# EAGLE library part OPAMP_DUAL (library marionette)
Op Amps Dual Package MC4558, dual op amp, Vin = +-2V to 20V, GBW = 5.5MHz, Pkg: SOIC-8, Mfg.: ST, Mfg_Part_No.: MC4558CDT; Digikey Part No.: 497-4051-1-ND
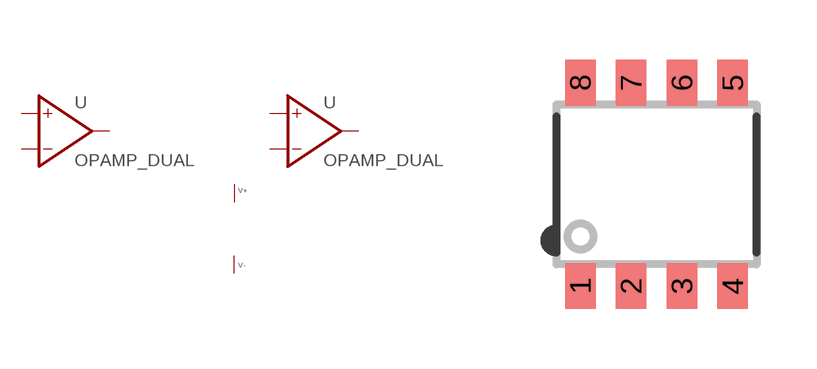
[diagram p14: symbol with the pads of SOIC-8; footprint SOIC-8]

Designator prefix U; gates G1=OP_AMP G2=OP_AMP G3=PIN_V+ G4=PIN_V-

## OPAMP_DUAL_MC4558CDT  [SOIC-8]
1  G1:OUT  out
2  G1:-IN  in
3  G1:+IN  in
4  G4:V-  pwr
5  G2:+IN  in
6  G2:-IN  in
7  G2:OUT  out
8  G3:V+  pwr

## Footprint SOIC-8 (pad centres in mm)
smd 0.762 x 1.143: 1 -1.905,-2.54; 2 -0.635,-2.54; 3 0.635,-2.54; 4 1.905,-2.54; 5 1.905,2.54; 6 0.635,2.54; 7 -0.635,2.54; 8 -1.905,2.54